# Altium schematic symbol library SX1278.SchLib: 1 symbol
Pins are listed as number, name and electrical type; pins without a type are passive.

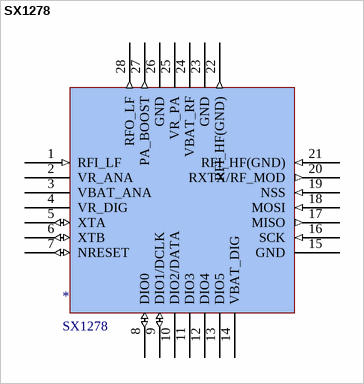
[diagram p0: symbol SX1278]

## SX1278
designator *
LORA通信模块，SEMETCH公司出品，137~525MHz。
pins: 1 RFI_LF (in) "频段2&3的射频输入", 2 VR_ANA "用于模拟电路的稳压电源电压", 3 VBAT_ANA "模拟电路供电电压", 4 VR_DIG "数字部分稳压电源电压", 5 XTA (io) "XTAL连接或TCXO输入", 6 XTB (io), 7 NRESET (io) "复位触发输入", 8 DIO0 (io) "数字IO，软件配置", 9 DIO1/DCLK (io) "数字IO，软件配置", 10 DIO2/DATA "数字IO，软件配置", 11 DIO3 "数字IO，软件配置", 12 DIO4 "数字IO，软件配置", 13 DIO5 "数字IO，软件配置", 14 VBAT_DIG "数字模块的供电电压", 15 GND "接地", 16 SCK (in) "SPI时钟输入", 17 MISO (out) "SPI时钟输出", 18 MOSI (in) "SPI时钟输入", 19 NSS (in) "SPI片选输入", 20 RXTX/RF_MOD (out) "Rx/Tx开关控制，Tx模式为高", 21 RFI_HF(GND) (in) "频段1的射频输入", 22 RFI_HF(GND) (out) "频段1的射频输出", 23 GND "接地", 24 VBAT_RF "射频模块电源电压", 25 VR_PA "用于PA的稳压电源", 26 GND "接地", 27 PA_BOOST (out) "可选的大功率PA输出，适用于所有频段", 28 RFO_LF (out) "频段2&3的射频输出"